# Altium schematic symbol library Schlib1.SchLib: 2 symbols
Pins are listed as number, name and electrical type; pins without a type are passive.

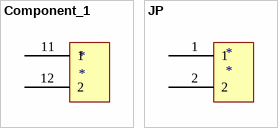
[diagram p0: symbols Component_1 to JP]

## Component_1
designator *
pins: 11 1, 12 2

## JP
designator *
pins: 1, 2